# Altium footprint library SparkFun-Connectors.PCBLIB: 327 footprints (part 21 of 21)
Each footprint in its own frame and in the unit in brackets; x right, y up, seen from the top. Pads: shape width x height; smd on the part's side, far side on the other; paste and mask are expansions set on the pad; w line width, h text height; cw(c..) or ccw(c..) is an arc to the next point about the centre after c.
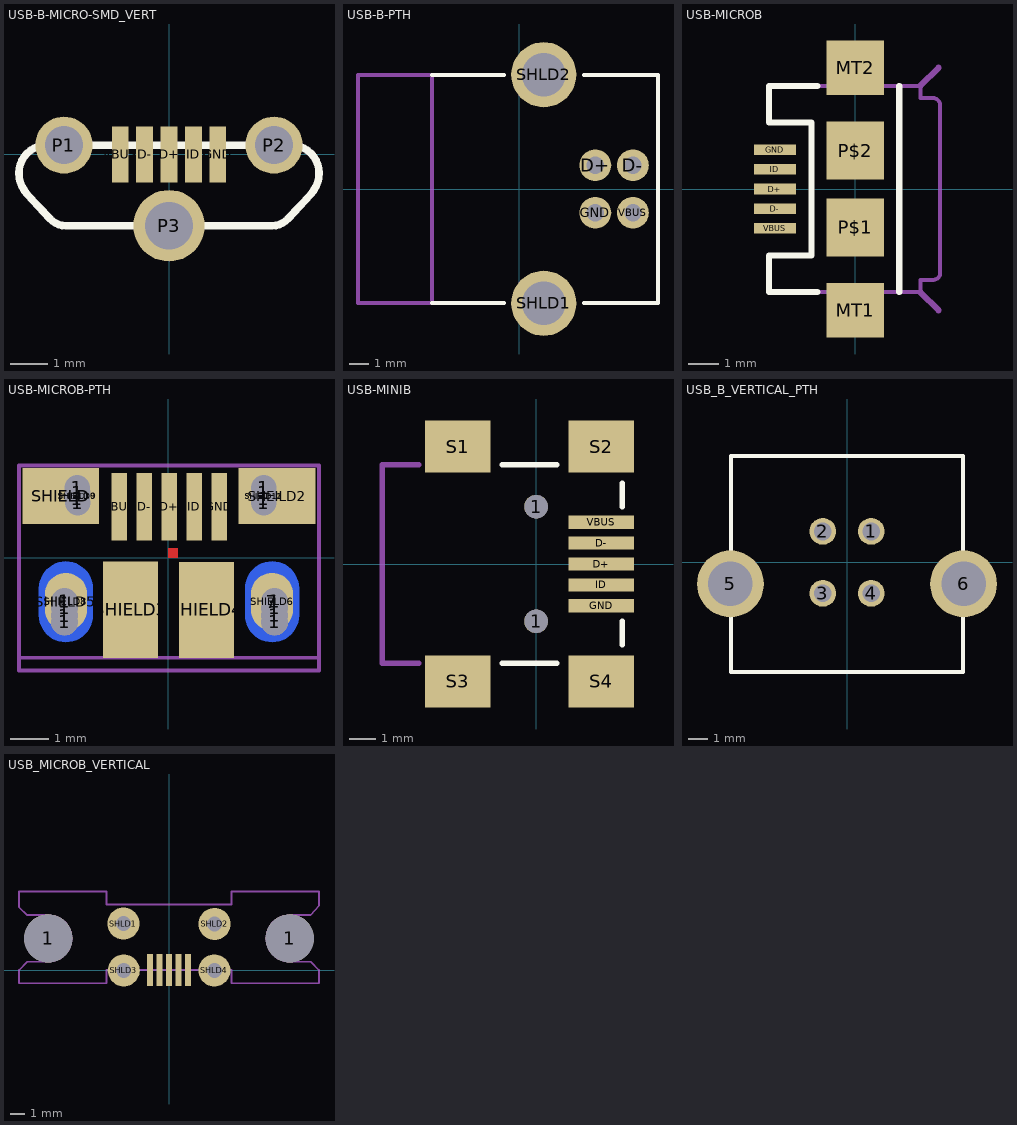
[diagram p20: the footprints below, top view; thin cyan lines are the x and y axes]

## USB-B-MICRO-SMD_VERT [mil]
pads (8):
  rect 17.72x59.06 smd: D+(0,0) D-(-25.59,0) GND(51.18,0) ID(25.59,0) VBUS(-51.18,0)
  round 60 hole 40: P1(-110.24,9.84) P2(110.24,9.84)
  round 75 hole 50: P3(0,-74.8)
Top Overlay:
  lines w5: -157.48,-19.56 -157.48,-19.42 ; 157.48,-19.56 157.48,-19.42
  lines w8: -157.48,-19.56 ccw(c-124.62,-19.56) -148.68,-41.94 -124.9,-67.5 ccw(c-108.14,-51.91) -108.14,-74.8 108.14,-74.8 ccw(c108.14,-51.91) 124.9,-67.5 148.68,-41.94 ccw(c124.62,-19.56) 157.48,-19.56 ; -157.48,-19.42 cw(c-128.22,-19.42) -128.22,9.84 128.22,9.84 cw(c128.22,-19.42) 157.48,-19.42
Top Paste:
  rectangle: -56.3,-25.59 -46.06,25.59
  rectangle: -30.71,-25.59 -20.47,25.59
  rectangle: -5.12,-25.59 5.12,25.59
  rectangle: 20.47,-25.59 30.71,25.59
  rectangle: 46.06,-25.59 56.3,25.59

## USB-B-PTH [mil]
pads (6):
  round 66 hole 36: D+(157.48,49.21) D-(235.48,49.21) GND(157.48,-49.21) VBUS(235.48,-49.21)
  round 135 hole 90: SHLD1(50.48,-237) SHLD2(50.48,237)
Top Overlay:
  lines w8: -181.1,-236.22 -31.5,-236.22 ; -181.1,236.22 -31.5,236.22 ; 133.86,-236.22 287.4,-236.22 287.4,236.22 133.86,236.22
Mechanical 16:
  lines w8: -334.65,-236.22 -181.1,-236.22 -181.1,236.22 -334.65,236.22 -334.65,-236.22

## USB-MICROB [mm]
pads (9):
  rect 1.4x0.35 smd: D+(-2.65,0) D-(-2.65,-0.65) GND(-2.65,1.3) ID(-2.65,0.65) VBUS(-2.65,-1.3)
  rect 1.9x1.8 smd: MT1(0,-4) MT2(0,4)
  rect 1.9x1.9 smd: P$1(0,-1.27) P$2(0,1.27)
Top Overlay:
  lines w0.203: -1.25,-3.4 -2.85,-3.4 -2.85,-2.2 -1.45,-2.2 -1.45,2.2 -2.85,2.2 -2.85,3.4 -1.25,3.4 ; 1.45,-3.4 1.45,3.4
Mechanical 16:
  lines w0.127: 1.45,-3.4 2.15,-3.4 2.15,-3 2.55,-3 ccw(c2.565,-2.762) 2.8,-2.8 2.8,2.75 ccw(c2.563,2.765) 2.6,3 2.15,3 2.15,3.4 1.45,3.4 ; 1.45,-3.4 -2.85,-3.4 -2.85,-2.2 -1.45,-2.2 -1.45,2.2 -2.85,2.2 -2.85,3.4 1.45,3.4 ; 1.45,-3.4 1.45,3.4
  lines w0.203: 2.15,-3.4 2.75,-4 ; 2.15,3.4 2.75,4

## USB-MICROB-PTH [mm]
pads (33):
  round 0.7 hole 0.7: 1(-2.694,-1.664) 1(-2.694,-1.499) 1(-2.693,-1.3) 1(-2.693,-1.134) 1(2.766,-1.664) 1(2.766,-1.496) 1(2.767,-1.303) 1(2.768,-1.134)
  round 0.66 hole 0.66: 1(-2.359,1.541) 1(-2.359,1.821) 1(-2.354,1.432) 1(-2.349,1.691) 1(2.481,1.541) 1(2.481,1.821) 1(2.486,1.432) 1(2.491,1.691)
  rrect100% 1.4x2.1 smd far side: 7(2.702,-1.142) SHIELD5(-2.659,-1.144)
  rect 0.4x1.75 smd: D+(0.031,1.331) D-(-0.618,1.331) GND(1.331,1.331) ID(0.681,1.331) VBUS(-1.268,1.331)
  rect 2x1.46 smd: SHEILD2(2.831,1.606) SHIELD(-2.793,1.606)
  rect 1.425x2.5 smd: SHIELD3(-0.979,-1.349) SHIELD4(0.996,-1.352)
  rrect100% 1.1x1.5 smd: SHIELD6(2.702,-1.142) SHIELD8(-2.659,-1.144)
  rrect100% 1x1.3 smd far side: SHIELD9(-2.368,1.604) SHIELD12(2.481,1.598)
  rrect100% 1x1.3 smd: SHIELD10(-2.368,1.604) SHIELD11(2.487,1.594)
Top Layer:
  region: 0,0 0.254,0 0.254,0.254 0,0.254
  region: 0,0 0.254,0 0.254,0.254 0,0.254
Top Paste:
  region: 0,0 0.254,0 0.254,0.254 0,0.254
  region: 0,0 0.254,0 0.254,0.254 0,0.254
  region: 0,0 0.254,0 0.254,0.254 0,0.254
  region: 0,0 0.254,0 0.254,0.254 0,0.254
  region: 0,0 0.254,0 0.254,0.254 0,0.254
  region: 0,0 0.254,0 0.254,0.254 0,0.254
  region: 0,0 0.254,0 0.254,0.254 0,0.254
Top Solder:
  region: 0,0 0.254,0 0.254,0.254 0,0.254
  region: 0,0 0.254,0 0.254,0.254 0,0.254
Mechanical 12:
  lines w0.1: -3.879,-2.599 3.922,-2.599 ; -3.879,-2.599 -3.879,-2.926 3.922,-2.926 3.922,-2.599 ; -3.879,-2.599 -3.879,2.401 3.922,2.401 3.922,-2.599
Mechanical 14:
  text "Edge of board" at 4.614,-2.819 h1.08

## USB-MINIB [mm]
pads (11):
  round 0.9 hole 0.9: 1(0,-2.2) 1(0,2.2)
  rect 2.5x0.5 smd: D+(2.5,0) D-(2.5,0.8) GND(2.5,-1.6) ID(2.5,-0.8) VBUS(2.5,1.6)
  rect 2.5x2 smd: S1(-3,4.5) S2(2.5,4.5) S3(-3,-4.5) S4(2.5,-4.5)
Top Overlay:
  lines w0.203: -1.3,-3.8 0.8,-3.8 ; -1.3,3.8 0.8,3.8 ; 3.3,-3.1 3.3,-2.2 ; 3.3,2.2 3.3,3.1
Mechanical 16:
  lines w0.203: -4.5,-3.8 -5.9,-3.8 -5.9,3.8 -4.5,3.8

## USB_B_VERTICAL_PTH [mm]
pads (6):
  round 1.38 hole 0.92: 1(1.25,1.6) 2(-1.25,1.6) 3(-1.25,-1.6) 4(1.25,-1.6)
  round 3.45 hole 2.3: 5(-6.02,-1.11) 6(6.02,-1.11)
Top Overlay:
  lines w0.203: -6,-5.66 6,-5.66 6,5.49 -6,5.49 -6,-5.66

## USB_MICROB_VERTICAL [mil]
pads (11):
  round 129.92 hole 129.92: 1(-325.79,85.43) 1(325.79,85.43)
  rect 15.75x86.61 smd: D+(0,0) D-(-25.59,0) GND(51.18,0) ID(25.59,0) VBUS(-51.18,0)
  round 86.61 hole 40: SHLD1(-122.86,125.32) SHLD2(122.91,124.42) SHLD3(-121.97,-1.06) SHLD4(122.36,-1.01)
Mechanical 16:
  lines w5: -404.53,-35.43 -404.53,0 -381.89,22.44 -325.79,22.44 ccw(c-325.79,85.44) -325.79,148.43 -381.89,148.43 -404.53,169.29 -404.53,211.81 -168.31,211.81 -168.31,176.38 168.31,176.38 168.31,211.81 404.53,211.81 404.53,173.23 381.89,148.43 325.79,148.43 ccw(c325.79,85.44) 325.79,22.44 381.89,22.44 404.53,0 404.53,-35.43 168.31,-35.43 168.31,0 -168.31,0 -168.31,-35.43 -404.53,-35.43